# Altium schematic symbol library QUTMS_SwitchLibrary.SchLib: 9 symbols
Pins are listed as number, name and electrical type; pins without a type are passive.

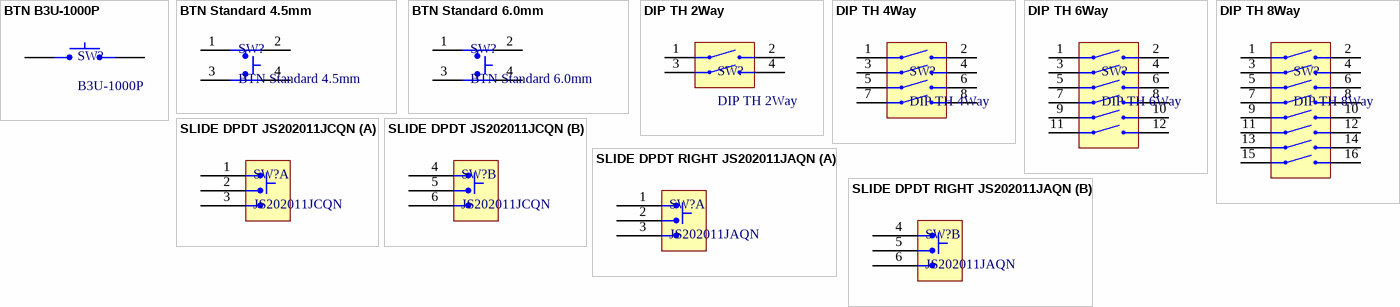
[diagram p0: symbols BTN B3U-1000P to SLIDE DPDT RIGHT JS202011JAQN]

## BTN B3U-1000P
designator SW?, comment B3U-1000P
Omron B3U-1000P Ultra Miniture Switch; ComponentLink1Description: LCSC; ComponentLink1URL: https://lcsc.com/product-detail/Tactile-Switches_BRIGHT-TSA063G50-250_C294565.html
footprint BTN B3U-1000P (OMRON B3U-1000P)
pins: 1, 2

## BTN Standard 4.5mm
designator SW?
Standard 4.5mm X 4.5mm momentary button; ComponentLink1Description: LCSC; ComponentLink1URL: https://lcsc.com/product-detail/Tactile-Switches_BRIGHT-TSA063G50-250_C294565.html
footprint BTN STANDARD 4.5mm X 4.5mm
pins: 1, 2, 3, 4

## BTN Standard 6.0mm
designator SW?
Standard 6mm X 6mm momentary button; ComponentLink1Description: LCSC; ComponentLink1URL: https://lcsc.com/product-detail/Tactile-Switches_BRIGHT-TSA063G50-250_C294565.html
footprint BTN STANDARD 6mm X 6mm
pins: 1, 2, 3, 4

## DIP TH 2Way
designator SW?
footprint DIP TH 2Way
pins: 1, 2, 3, 4

## DIP TH 4Way
designator SW?
footprint DIP TH 4Way
pins: 1, 2, 3, 4, 5, 6, 7, 8

## DIP TH 6Way
designator SW?
footprint DIP TH 6Way
pins: 1, 2, 3, 4, 5, 6, 7, 8, 9, 10, 11, 12

## DIP TH 8Way
designator SW?
footprint DIP TH 8Way
pins: 1, 2, 3, 4, 5, 6, 7, 8, 9, 10, 11, 12, 13, 14, 15, 16

## SLIDE DPDT JS202011JCQN
designator SW?, comment JS202011JCQN
footprint JS202011JCQN
part A pins: 1, 2, 3
part B pins: 4, 5, 6

## SLIDE DPDT RIGHT JS202011JAQN
designator SW?, comment JS202011JAQN
footprint JS202011JAQN
part A pins: 1, 2, 3
part B pins: 4, 5, 6